# EAGLE library part LA4182 (library Audio-Power-amlifier V.2.0)
Built-in 2 channels enabling use in stereo and bridge amplifier applications. High output: 2.3 W/channel, VCC=9V,RL=4Ω, and 4.7 W/bridge, RL=8Ω. Minimum number of external parts required : 9 pcs. min. (Stereo/bridge). Small pop noise at the time of power supply ON/OFF due to built-in muting circuit. Good ripple rejection ratio due to built-in ripple filter. Soft tone at the time of output saturation. Good channel separation. Voltage gain fixed at 45 dB (Bridge: 51 dB). Variable voltage gain available with external resistor added. Easy to design radiator fin.
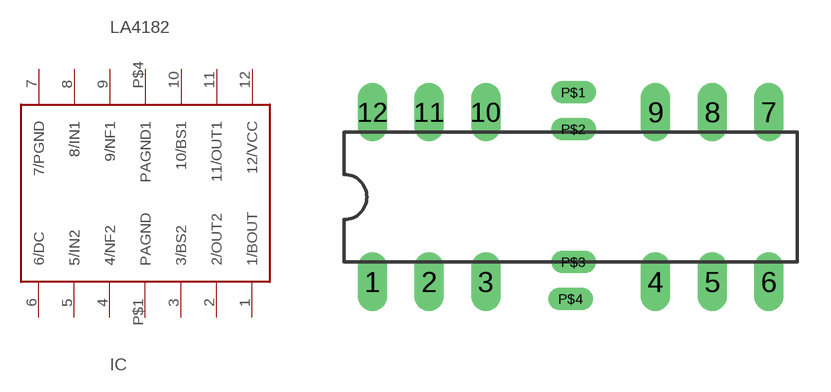
[diagram p79: symbol with the pads of 12-DIPH-300; footprint 12-DIPH-300]

Designator prefix IC

## LA4182  [12-DIPH-300]
1  1/BOUT
2  2/OUT2  out
3  3/BS2
4  4/NF2
5  5/IN2  in
6  6/DC
7  7/PGND  pwr
8  8/IN1  in
9  9/NF1
10  10/BS1
11  11/OUT1  out
12  12/VCC  pwr
P$1  PAGND  pwr
P$4  PAGND1  pwr

## Footprint 12-DIPH-300 (pad centres in mm)
Dual In Line Package
drill 0.813 long: 1 -8.89,-3.81; 2 -6.35,-3.81; 3 -3.81,-3.81; 4 3.81,-3.81; 5 6.35,-3.81; 6 8.89,-3.81; 7 8.89,3.81; 8 6.35,3.81; 9 3.81,3.81; 10 -3.81,3.81; 11 -6.35,3.81; 12 -8.89,3.81
drill 0.003 pad 1.016 long: P$1 0.127,4.699; P$2 0.127,3.048; P$3 0.127,-2.921; P$4 0,-4.572